# Altium schematic symbol library 0480372200.SchLib: 1 symbol
Pins are listed as number, name and electrical type; pins without a type are passive.

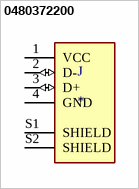
[diagram p0: symbol 0480372200]

## 0480372200
designator J
USB-A (USB TYPE-A) USB 2.0 Plug Connector 4 Position Surface Mount, Right Angle; Through Hole; MP: 0480372200; MF: Molex; SnapEDA_Link: https://www.snapeda.com/parts/0480372200/Molex/view-part/446991/?ref=snap; DigiKey-Purchase-URL: https://snapeda.com/shop?store=DigiKey&id=446991; Arrow_Electronics-Purchase-URL: https://snapeda.com/shop?store=Arrow+Electronics&id=446991; Availability: Good; Package: None; Price: None; Value: *
footprint MOLEX_0480372200
pins: 1 VCC (power), 2 D- (io), 3 D+ (io), 4 GND (power), S1 SHIELD, S2 SHIELD